# Altium footprint library PinHeader.PcbLib: 1 footprints
Each footprint in its own frame and in the unit in brackets; x right, y up, seen from the top. Pads: shape width x height; smd on the part's side, far side on the other; paste and mask are expansions set on the pad; w line width, h text height; cw(c..) or ccw(c..) is an arc to the next point about the centre after c.
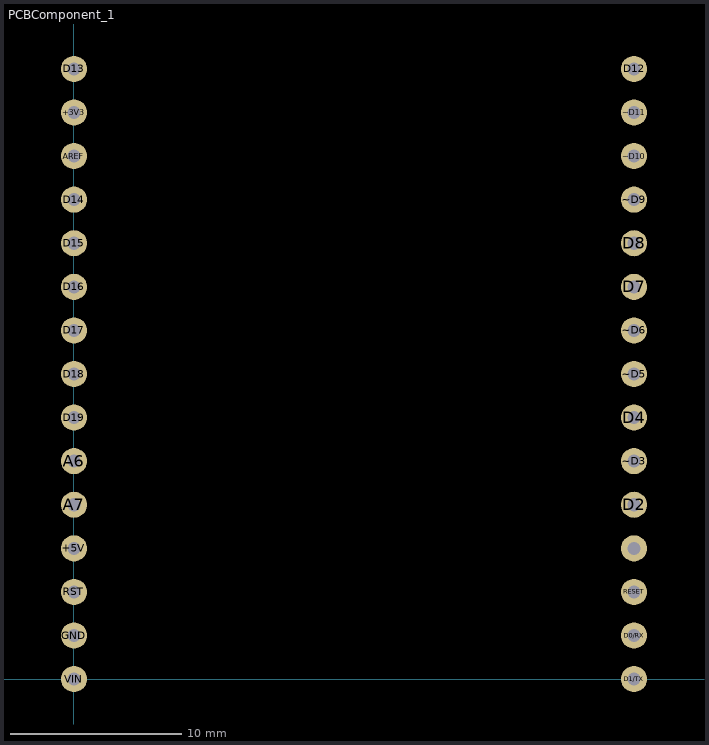
[diagram p0: the footprint, top view; thin cyan lines are the x and y axes]

## PCBComponent_1 [mil]
pads (30):
  round 60 hole 30: +3V3(0,1300) +5V(0,300) A6(0,500) A7(0,400) AREF(0,1200) D0/RX(1285,100) D1/TX(1285,0) D2(1285,400) D4(1285,600) D7(1285,900) D8(1285,1000) D12(1285,1400) D13(0,1400) D14(0,1100) D15(0,1000) D16(0,900) D17(0,800) D18(0,700) D19(0,600) GND(0,100) GROUND(1285,300) RESET(1285,200) RST(0,200) VIN(0,0) ~D3(1285,500) ~D5(1285,700) ~D6(1285,800) ~D9(1285,1100) ~D10(1285,1200) ~D11(1285,1300)
3D body "DW-15-15-T-S-290.stp": height 370, standoff -260, extent -50,-50 50,1450
3D body "DW-15-15-T-S-290.stp": height 370, standoff -260, extent 1235,-55 1335,1445